# EAGLE library part TPS61032 (library Lysenko_Eagle_Lib)
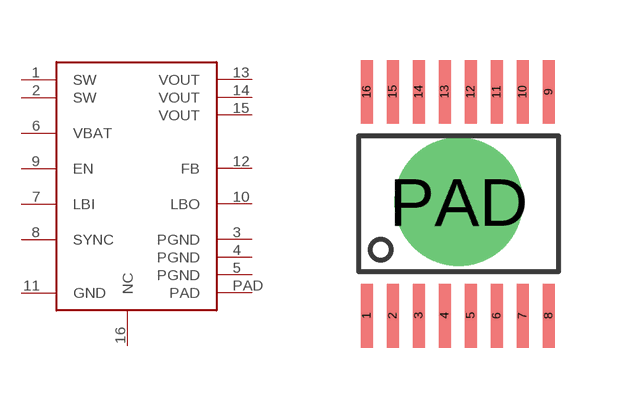
[diagram p10: symbol with the pads of TPS61032; footprint TPS61032]

Designator prefix -

## TPS61032  [TPS61032]
1  SW
2  SW
3  PGND
4  PGND
5  PGND
6  VBAT
7  LBI
8  SYNC
9  EN
10  LBO
11  GND
12  FB
13  VOUT
14  VOUT
15  VOUT
16  NC
PAD  PAD

## Footprint TPS61032 (pad centres in mm)
smd 0.3 x 1.6: 1 0.15,-1.1; 2 0.8,-1.1; 3 1.45,-1.1; 4 2.1,-1.1; 5 2.75,-1.1; 6 3.4,-1.1; 7 4.05,-1.1; 8 4.7,-1.1; 9 4.7,4.5; 10 4.05,4.5; 11 3.4,4.5; 12 2.75,4.5; 13 2.1,4.5; 14 1.45,4.5; 15 0.8,4.5; 16 0.15,4.5
drill 2.2 pad 2.54: PAD 2.45,1.75